# Altium schematic symbol library TR.SchLib: 12 symbols
Pins are listed as number, name and electrical type; pins without a type are passive.

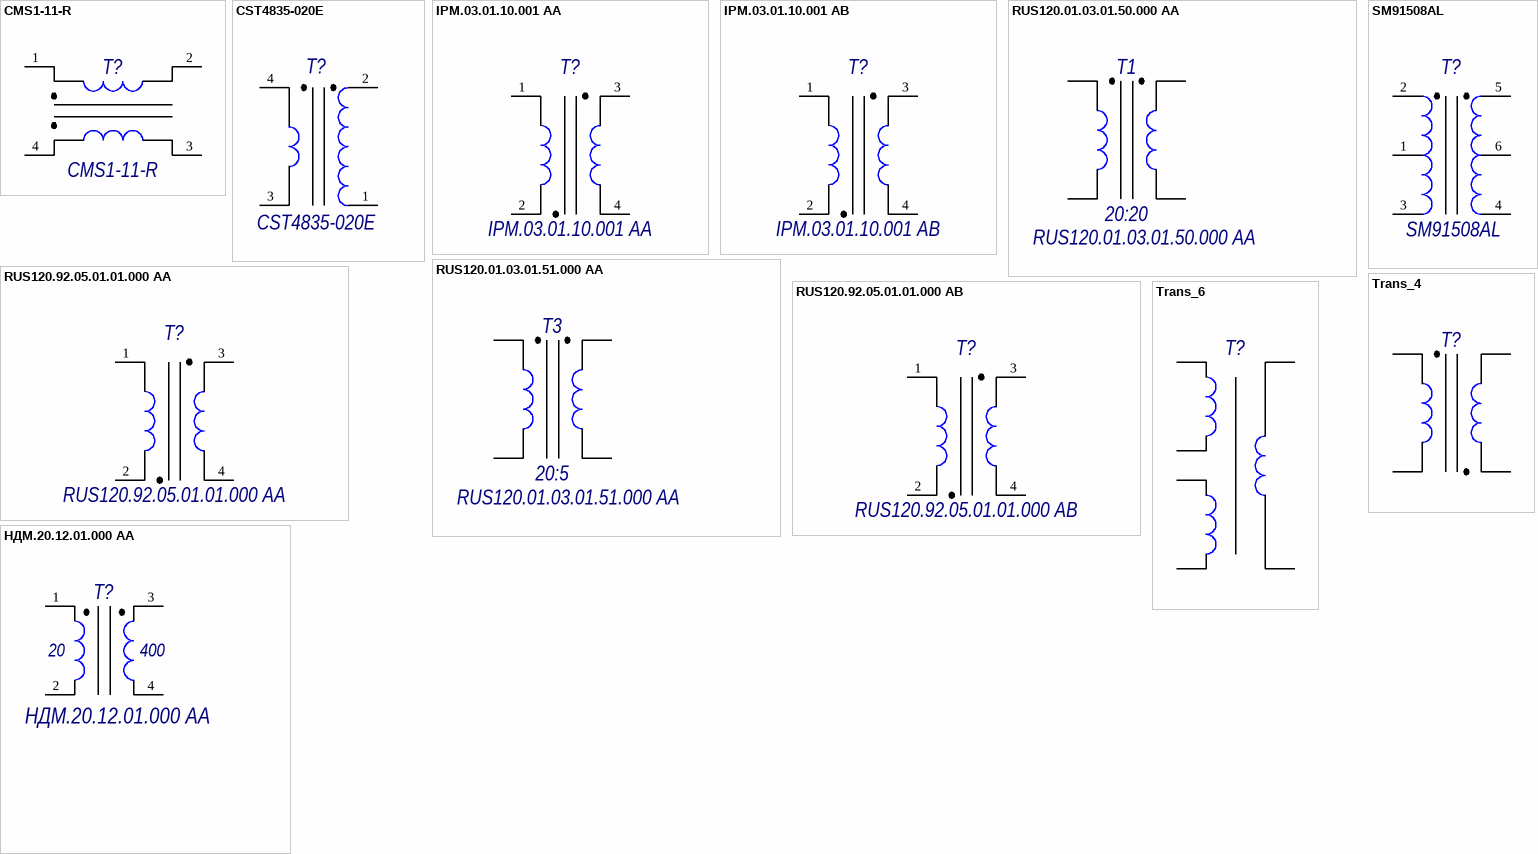
[diagram p0: symbols CMS1-11-R to НДМ.20.12.01.000 АА]

## CMS1-11-R
designator T?, comment PartNumber: CMS1-11-R  (hidden comment: Трансформатор CMS1-11-R фирма "CMS")
Common mode inductors; GOST: Трансформатор CMS1-11-R фирма "CMS"
footprint CMS1 (9.4x7.2mm H=2.6mm Common Mode Inductors)
pins: 1, 2, 3, 4

## CST4835-020E
designator T?, comment PartNumber: CST4835-020E  (hidden comment: Трансформатор CST4835-020E фирма "Coilcraft")
Current Transformer; GOST: Трансформатор CST4835-020E фирма "Coilcraft"
footprint CST4835 (Body  4.5x4.8mm H=3,5mm Series SMT Current Sense Transformers (Coilcraft))
pins: 1, 2, 3, 4

## IPM.03.01.10.001 AA
designator T?, comment PartNumber: IPM.03.01.10.001 AA  (hidden comment: Трансформатор IPM.03.01.10.001 AA)
Power transformer 1:20 (D15 H8) rev. AA; GOST: Трансформатор IPM.03.01.10.001 AA; Size: D=15mm H=8mm
footprint Trans_Circle_D15 H8 +4 pin (plan) (D_Circle = 15mm H=8mm)
pins: 1, 2, 3, 4

## IPM.03.01.10.001 AB
designator T?, comment PartNumber: IPM.03.01.10.001 AB  (hidden comment: Трансформатор IPM.03.01.10.001 AB)
Power transformer 1:20 (D15 H8) rev. AB; GOST: Трансформатор IPM.03.01.10.001 AB; Size: D=15mm H=8mm
footprint Trans_Circle_D15 H8 +4 pin (plan) (D_Circle = 15mm H=8mm)
pins: 1, 2, 3, 4

## RUS120.01.03.01.50.000 AA
designator T1  value 20:20  (hidden comment: RUS120.01.03.01.50.000 AA)
transformer 20:20 (D16 H5) rev. AA; PartNumber: RUS120.01.03.01.50.000 AA
footprint Trans_Circle_D16 H5 (D_Circle = 16mm H=5mm)

## RUS120.01.03.01.51.000 AA
designator T3  value 20:5  (hidden comment: RUS120.01.03.01.51.000 AA)
transformer 20:5 (D16 H5) rev. AA; PartNumber: RUS120.01.03.01.51.000 AA
footprint Trans_Circle_D16 H5 (D_Circle = 16mm H=5mm)

## RUS120.92.05.01.01.000 AA
designator T?, comment PartNumber: RUS120.92.05.01.01.000 AA  (hidden comment: Трансформатор RUS120.92.05.01.01.000 AA)
Power transformer 1:20 (D15 H8) rev. AA; GOST: Трансформатор RUS120.92.05.01.01.000 AA; Size: D=15mm H=8mm
footprint Trans_Circle_D15 H8 +4 pin (plan) (D_Circle = 15mm H=8mm)
pins: 1, 2, 3, 4

## RUS120.92.05.01.01.000 AB
designator T?, comment PartNumber: RUS120.92.05.01.01.000 AB  (hidden comment: Трансформатор RUS120.92.05.01.01.000 AB)
Power transformer 1:20 (D15 H8) rev. AB; GOST: Трансформатор RUS120.92.05.01.01.000 AB; Size: D=15mm H=8mm
footprint Trans_Circle_D15 H8 +4 pin (plan) (D_Circle = 15mm H=8mm)
pins: 1, 2, 3, 4

## SM91508AL
designator T?, comment PartNumber: SM91508AL  (hidden comment: Трансформатор SM91508AL фирма "Bourns")
Signal Transformer; GOST: Трансформатор SM91508AL фирма "Bourns"
footprint SM91508AL (Body 8.4mm*7.7mm H=4.25mm Signal transformer (Bourns))
pins: 1, 2, 3, 4, 5, 6

## Trans_4
designator T?, comment Magnetic circuit 10x5x5mm  (value not drawn)
трансформатор с сердечником; PartNumber: Magnetic circuit 10x5x5mm
footprint Trans_Circle_D16 H5 (D_Circle = 16mm H=5mm)

## Trans_6
designator T?, comment Magnetic circuit 10x5x5mm  (value not drawn)
трансформатор с сердечником; PartNumber: Magnetic circuit 10x5x5mm
footprint Trans_Circle_D16 H5 (D_Circle = 16mm H=5mm)

## НДМ.20.12.01.000 АА
designator T?
Трансформатор 1:5:5; PartNumber: НДМ.20.12.01.000 АА
footprint Trans_Circle_D15 H8 +4 pin (plan) (D_Circle = 15mm H=8mm)
pins: 1, 2, 3, 4
text: 20; 400